# Altium footprint library Schottky.PcbLib: 7 footprints
Each footprint in its own frame and in the unit in brackets; x right, y up, seen from the top. Pads: shape width x height; smd on the part's side, far side on the other; paste and mask are expansions set on the pad; w line width, h text height; cw(c..) or ccw(c..) is an arc to the next point about the centre after c.
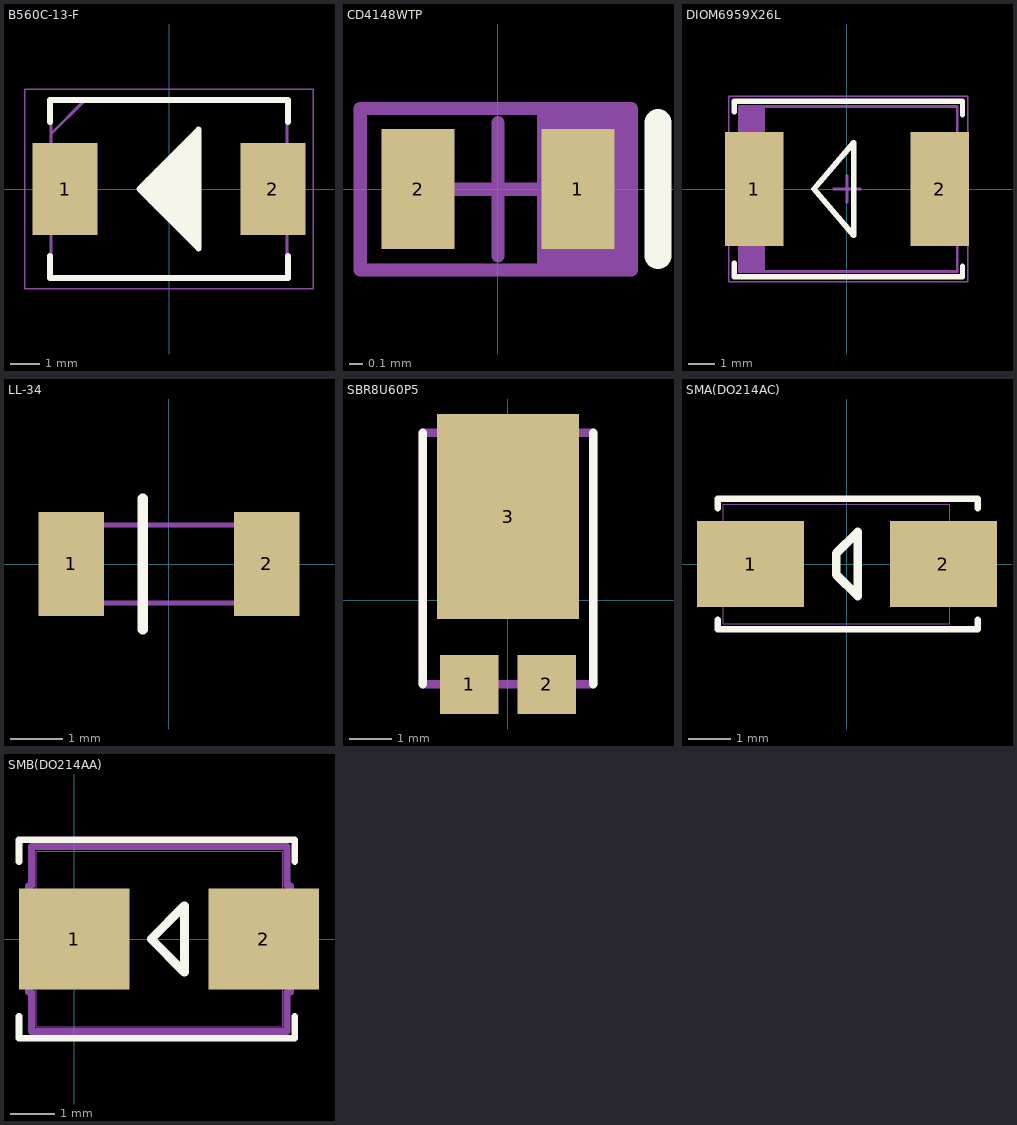
[diagram p0: the footprints below, top view; thin cyan lines are the x and y axes]

## B560C-13-F [mm]
pads (2):
  rect 2.2x3.1 smd: 1(-3.5,0) 2(3.5,0)
Top Overlay:
  lines w0.2: -4,-2.25 -4,-3 4,-3 4,-2.25 ; -4,2.25 -4,3 4,3 4,2.25 ; -0.8,-0.2 1,1.6 ; -0.8,0.1 1,-1.7 ; -0.7,0.3 0.992,-1.356 ; -0.6,-0.4 1,1.2 ; -0.5,0.4 0.985,-1.045 -0.4,0.6 1,-0.8 ; -0.487,-0.438 -0.449,-0.445 -0.351,-0.521 -0.26,-0.582 -0.123,-0.696 0.021,-0.795 0.203,-1.06 0.272,-1.136 0.431,-1.288 0.689,-1.546 0.856,-1.705 0.901,-1.667 0.863,-1.493 0.924,-1.288 0.681,-1.31 0.734,-1.295 0.879,-1.174 0.863,-0.999 0.446,-1.098 0.598,-1.09 0.734,-0.863 0.59,-0.992 0.514,-0.825 0.211,-0.999 0.567,-0.62 0.15,-0.643 0.067,-0.696 0.15,-0.764 0.325,-0.468 0.105,-0.537 0.097,-0.453 -0.282,-0.559 0.112,-0.301 -0.04,-0.332 -0.161,-0.059 -0.131,-0.225 -0.578,-0.203 -0.525,-0.096 -0.487,-0.005 -0.267,0.162 -0.335,0.404 -0.131,0.799 -0.297,0.351 -0.844,-0.028 -0.798,0.025 -0.738,0.124 -0.593,0.192 -0.396,0.344 -0.093,0.533 0.272,0.806 0.454,0.958 0.522,1.307 0.696,1.489 0.879,1.671 0.863,1.717 0.879,1.292 0.734,1.52 0.947,1.133 0.537,1.459 0.917,0.92 0.439,1.315 0.97,0.685 0.355,1.193 0.97,0.45 0.226,1.102 0.909,0.268 0.074,1.011 0.909,0.033 0.021,0.86 0.917,-0.195 -0.085,0.784 0.924,-0.423 -0.2,0.7 1,-0.8 ; -0.4,-0.6 1,0.8 ; -0.2,-0.8 1,0.4 ; 0,-1 1,0 ; 0.2,-1.2 1,-0.4 ; 0.4,-1.4 1,-0.8 ; 0.6,-1.6 1,-1.2 ; -1,0 1,2 1,-2 -1,0
Mechanical 13:
  lines w0.1: -3.97,1.852 -2.87,2.952 ; -3.97,-2.952 -3.97,2.952 3.97,2.952 3.97,-2.952 -3.97,-2.952
Mechanical 15:
  lines w0.05: -4.85,-3.36 -4.85,3.36 4.85,3.36 4.85,-3.36 -4.85,-3.36
3D body "B560C-13-F.stp": height 2.5, standoff 0, extent -3.97,-2.952 3.97,2.953

## CD4148WTP [mm] "1.25V@100mA 150mA 200mW 4ns 5uA@75V 75V 800mA Independent 0603 Switching Diodes ROHS"
pads (2):
  rect 0.55x0.9 smd: 1(0.6,0) 2(-0.6,0)
Top Overlay:
  lines w0.2: 1.2,-0.5 1.2,0.5
Mechanical 13:
  region: 1.011,0.611 0.294,0.611 0.294,-0.606 1.011,-0.606
  lines w0.1: -1.034,-0.606 -1.034,0.605 1,0.605 1,-0.606 -1.034,-0.606
Mechanical 15:
  lines w0.05: -1.034,-0.609 -1.034,0.605 1,0.605 1,-0.609 -1.034,-0.609
  lines w0.1: -0.5,0 0.5,0 ; 0,-0.5 0,0.5
3D body "TS4148 RCG.step": height 0.75, standoff 0, extent -0.775,-0.4 0.775,0.4

## DIOM6959X26L [mm] "Molded Diode, 2-Leads, Body 6.86x5.91mm, IPC High Density"
height 2.62
pads (2):
  rect 2.2x4.3 smd: 1(-3.5,0) 2(3.5,0)
Top Overlay:
  lines w0.2: -4.248,-2.8 -4.248,-3.3 1.652,-3.3 3.252,-3.3 4.052,-3.3 4.352,-3.3 4.352,-2.9 ; -4.248,2.9 -4.248,3.3 -3.948,3.3 -3.148,3.3 -1.548,3.3 4.352,3.3 4.352,2.8 ; -1.248,0 0.252,-1.75 0.252,1.75 -1.248,0
Mechanical 13:
  rectangle: -4.053,-3.11 -3.097,3.11
  lines w0.1: -4.053,-3.11 -4.053,3.11 4.152,3.11 4.152,-3.11 -4.053,-3.11
Mechanical 15:
  lines w0.05: -4.448,-3.5 4.552,-3.5 4.552,3.5 -4.448,3.5 -4.448,-3.5
  lines w0.1: -0.5,0 0.5,0 ; 0,-0.5 0,0.5
3D body "57T.STEP": height 2.62, standoff 0, extent -3.917,-2.959 4.021,2.959

## LL-34 [mm]
pads (2):
  rect 1.25x2 smd: 1(-1.875,0) 2(1.875,0)
Top Overlay:
  lines w0.2: -0.5,-1.25 -0.5,1.25
Mechanical 13:
  lines w0.1: -1.5,-0.75 -1.5,0.75 ; -1.75,-0.75 1.75,-0.75 1.75,0.75 -1.75,0.75 -1.75,-0.75
3D body "LL4148-GS18.stp": height 1.6, standoff 0, extent -1.85,-0.783 1.85,0.783

## SBR8U60P5 [mm] "120uA@60V 280A 460mV@8A 60V 8A PowerDI-5 Super Barrier Rectifiers (SBR) ROHS"
pads (3):
  rect 1.39x1.4 smd: 1(-0.92,-1.991) 2(0.92,-1.991)
  rect 3.36x4.86 smd: 3(0,1.991)
Top Overlay:
  lines w0.2: -2.025,-1.987 -2.025,3.975 ; 2.025,-1.987 2.025,3.975
Mechanical 13:
  lines w0.2: -2.025,-1.987 -2.025,3.975 2.025,3.975 2.025,-1.987 -2.025,-1.987
3D body "SBR8U60P5-13.stp": height 1.05, standoff 0, extent -2.06,-2.359 1.84,4.041

## SMA(DO214AC) [mm]
pads (2):
  rect 2.5x2 smd: 1(-2.25,0) 2(2.25,0)
Top Overlay:
  lines w0.152: -3.017,-1.3 -3.017,-1.524 3.05,-1.524 3.05,-1.3 ; -3.017,1.3 -3.017,1.524 3.05,1.524 3.05,1.3
  lines w0.2: -0.25,-0.25 0.25,-0.75 0.25,0.75 -0.25,0.25 -0.25,-0.25
Mechanical 13:
  lines w0.025: -2.89,-1.397 -2.89,1.397 2.393,1.397 2.393,-1.397 -2.89,-1.397
3D body "DIODE_DO214AC.step": height 2.34, standoff 0, extent -2.592,-1.397 2.692,1.397

## SMB(DO214AA) [mm]
pads (2):
  rect 2.5x2.3 smd paste+0 mask+0: 1(0,0) 2(4.3,0)
Top Overlay:
  lines w0.152: -1.25,-1.75 -1.25,-2.25 5,-2.25 5,-1.75 ; -1.25,1.75 -1.25,2.25 5,2.25 5,1.75
  lines w0.2: 1.75,0 2.5,-0.75 2.5,0.75 1.75,0
Mechanical 13:
  lines w0.025: -0.864,-1.994 -0.864,1.994 4.724,1.994 4.724,-1.994 -0.864,-1.994
Mechanical 15:
  lines w0.152: -1.041,-1.206 -0.965,-1.206 -0.965,-2.095 4.826,-2.095 4.826,-1.206 4.902,-1.206 4.902,1.206 4.826,1.206 4.826,2.095 -0.965,2.095 -0.965,1.206 -1.041,1.206 -1.041,-1.206
3D body "CDBB5-HF.step": height 3.25, standoff 0, extent -0.864,-1.994 4.724,1.994